# EAGLE library part ATTINY13A (library dubec)
IC MCU 8BIT 1KB FLASH 10MLF
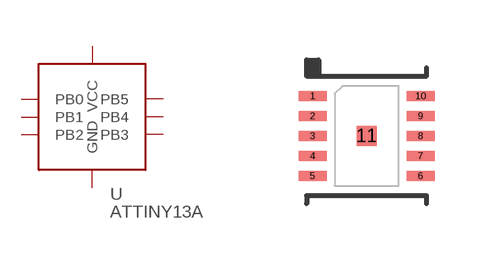
[diagram p7: symbol with the pads of 10-MLF; footprint 10-MLF]

Designator prefix -

## ATTINY13A10M1 (DIGIKEY_PART_#: ATTINY13A-MMF-ND; MANUFACTURER: Atmel; MFG_PART_#: ATTINY13A-MMF)  [10-MLF]
1  PB5
2  PB3
4  PB4
5  GND  pwr
6  PB0
7  PB1
9  PB2
10  VCC  pwr
11  GND  pwr

## Footprint 10-MLF (pad centres in mm)
smd 0.7 x 0.25: 1 -1.35,1; 2 -1.35,0.5; 3 -1.35,0; 4 -1.35,-0.5; 5 -1.35,-1; 6 1.35,-1; 7 1.35,-0.5; 8 1.35,0; 9 1.35,0.5; 10 1.35,1
smd 0.5 x 0.5: 11 0,0